# Altium footprint library Con Board-to-Board.PcbLib: 2 footprints
Each footprint in its own frame and in the unit in brackets; x right, y up, seen from the top. Pads: shape width x height; smd on the part's side, far side on the other; paste and mask are expansions set on the pad; w line width, h text height; cw(c..) or ccw(c..) is an arc to the next point about the centre after c.
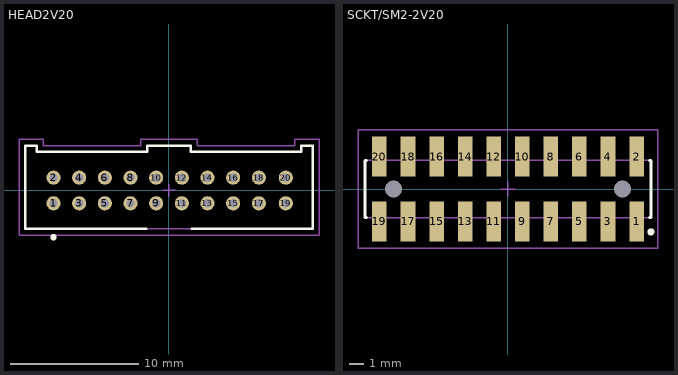
[diagram p0: the footprints below, top view; thin cyan lines are the x and y axes]

## HEAD2V20 [mm] "Connector, Shrouded Header, Double Row, Thru-Hole, 20 Position, Vertical, Pitch 2mm, Body 22.38 x 6.5 mm (LxW)"
height 4.8
pads (20):
  round 1.1 hole 0.65: 1(-9,-1) 2(-9,1) 3(-7,-1) 4(-7,1) 5(-5,-1) 6(-5,1) 7(-3,-1) 8(-3,1) 9(-1,-1) 10(-1,1) 11(1,-1) 12(1,1) 13(3,-1) 14(3,1) 15(5,-1) 16(5,1) 17(7,-1) 18(7,1) 19(9.1,-1) 20(9.1,1)
Top Overlay:
  circle w0.25: c-9,-3.65 r0.125
  lines w0.2: -1.775,-3 -11.19,-3 -11.19,3.5 -10.3,3.5 -10.3,3 -1.7,3 -1.7,3.5 1.7,3.5 1.7,3 10.3,3 10.3,3.5 11.19,3.5 11.19,-3 1.775,-3
Mechanical 13:
  lines w0.1: -11.19,-3 -11.19,3.5 -10.3,3.5 -10.3,3 -1.7,3 -1.7,3.5 1.7,3.5 1.7,3 10.3,3 10.3,3.5 11.19,3.5 11.19,-3 -11.19,-3
Mechanical 15:
  lines w0.1: -0.5,0 0.5,0 ; 0,-0.5 0,0.5 ; -11.69,-3.5 11.69,-3.5 11.69,4 9.8,4 9.8,3.5 2.2,3.5 2.2,4 -2.2,4 -2.2,3.5 -9.8,3.5 -9.8,4 -11.69,4 -11.69,-3.5
3D body: height 4.8, standoff 0, extent -11.204,-3.014 11.19,3
3D body: height 4.8, standoff 0, extent -11.19,3 -10.3,3.5
3D body: height 4.8, standoff 0, extent 10.3,3 11.19,3.5
3D body: height 4.8, standoff 0, extent -1.7,3 1.7,3.5

## SCKT/SM2-2V20 [mm] "Connector, Socket Strip, Double Row, SMT, 20 Position, Vertical, Pitch 2mm, Body 20 x 4 mm (LxW)"
height 3.56
pads (22):
  rect 1.02x2.77 smd: 1(9,-2.275) 2(9,2.275) 3(7,-2.275) 4(7,2.275) 5(5,-2.275) 6(5,2.275) 7(3,-2.275) 8(3,2.275) 9(1,-2.275) 10(1,2.275) 11(-1,-2.275) 12(-1,2.275) 13(-3,-2.275) 14(-3,2.275) 15(-5,-2.275) 16(-5,2.275) 17(-7,-2.275) 18(-7,2.275) 19(-9,-2.275) 20(-9,2.275)
  round 0.89 hole 1.19: MH1(8,0) MH2(-8,0)
Top Overlay:
  circle w0.25: c10,-3 r0.125
  lines w0.2: -9.91,-2 -10,-2 -10,2 -9.91,2 ; 9.91,-2 10,-2 10,2 9.91,2
Mechanical 13:
  lines w0.1: -10,-2 10,-2 10,2 -10,2 -10,-2
Mechanical 15:
  lines w0.1: -0.5,0 0.5,0 ; 0,-0.5 0,0.5 ; -10.5,-4.16 10.5,-4.16 10.5,4.16 -10.5,4.16 -10.5,-4.16
3D body: height 3.56, standoff 0, extent -10,-2 10,2